# EAGLE library part 74HC2G34GV (library 74xx-little-us)
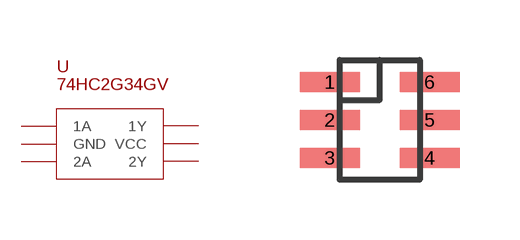
[diagram p4: symbol with the pads of 74HC2G34GV; footprint 74HC2G34GV]

Designator prefix U

## 74HC2G34GV  [74HC2G34GV]
1  1A
2  GND
3  2A
4  2Y
5  VCC
6  1Y

## Footprint 74HC2G34GV (pad centres in mm)
smd 1.5 x 0.5: 1 -1.25,0.95; 2 -1.25,0; 3 -1.25,-0.95; 4 1.25,-0.95; 5 1.25,0; 6 1.25,0.95